# EAGLE library part CAN_V1 (library solar_component)
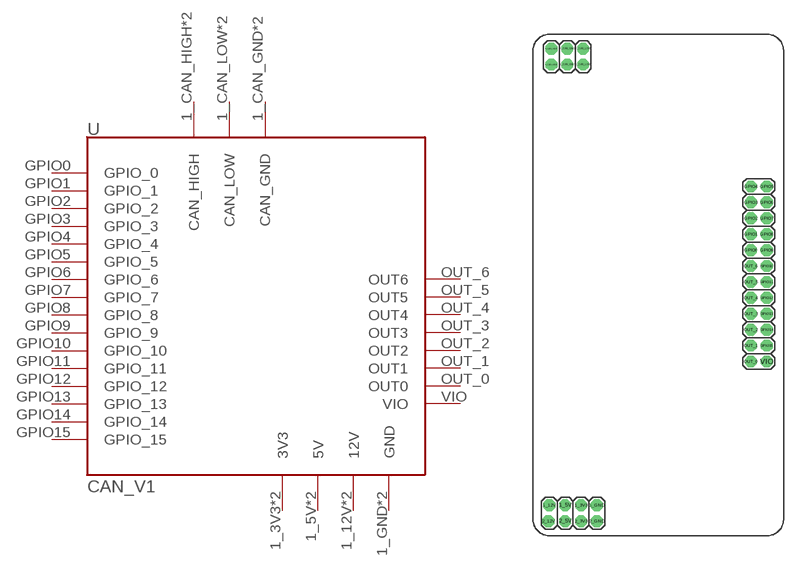
[diagram p0: symbol with the pads of CAN_V1; footprint CAN_V1]

Designator prefix -

## CAN_V1  [CAN_V1]
1_3V3  3V3
1_5V  5V
1_12V  12V
1_CAN_GND  CAN_GND
1_CAN_HIGH  CAN_HIGH
1_CAN_LOW  CAN_LOW
1_GND  GND
2_3V3  3V3
2_5V  5V
2_12V  12V
2_CAN_GND  CAN_GND
2_CAN_HIGH  CAN_HIGH
2_CAN_LOW  CAN_LOW
2_GND  GND
GPIO0  GPIO_0
GPIO1  GPIO_1
GPIO2  GPIO_2
GPIO3  GPIO_3
GPIO4  GPIO_4
GPIO5  GPIO_5
GPIO6  GPIO_6
GPIO7  GPIO_7
GPIO8  GPIO_8
GPIO9  GPIO_9
GPIO10  GPIO_10
GPIO11  GPIO_11
GPIO12  GPIO_12
GPIO13  GPIO_13
GPIO14  GPIO_14
GPIO15  GPIO_15
OUT_0  OUT0
OUT_1  OUT1
OUT_2  OUT2
OUT_3  OUT3
OUT_4  OUT4
OUT_5  OUT5
OUT_6  OUT6
VIO  VIO

## Footprint CAN_V1 (pad centres in mm)
drill 1.016 pad 1.88 octagon: 1_3V3 7.671,4.851; 1_5V 5.131,4.851; 1_12V 2.591,4.851; 1_CAN_GND 5.461,75.184; 1_CAN_HIGH 2.921,75.184; 1_CAN_LOW 8.001,75.184; 1_GND 10.211,4.851; 2_3V3 7.671,2.311; 2_5V 5.131,2.311; 2_12V 2.464,2.311; 2_CAN_GND 5.461,77.724; 2_CAN_HIGH 2.921,77.724; 2_CAN_LOW 8.001,77.724; 2_GND 10.211,2.311; GPIO0 34.798,45.568; GPIO1 34.798,48.108; GPIO2 34.798,50.648; GPIO3 34.798,53.188; GPIO4 34.798,55.728; GPIO5 37.338,55.728; GPIO6 37.338,53.188; GPIO7 37.338,50.648; GPIO8 37.338,48.108; GPIO9 37.338,45.568; GPIO10 37.338,43.028; GPIO11 37.338,40.488; GPIO12 37.338,37.948; GPIO13 37.338,35.408; GPIO14 37.338,32.868; GPIO15 37.338,30.328; OUT_0 34.798,27.788; OUT_1 34.798,30.328; OUT_2 34.798,32.868; OUT_3 34.798,35.408; OUT_4 34.798,37.948; OUT_5 34.798,40.488; OUT_6 34.798,43.028; VIO 37.338,27.788